# EAGLE library part SD_CARD_HOLDER (library capstone)
this is the sd card slot holder part number MEM2061
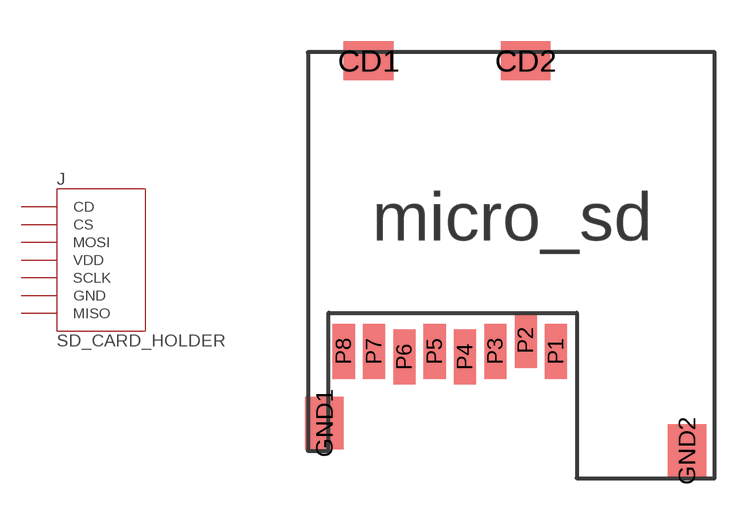
[diagram p4: symbol with the pads of SD_CARD_HOLDER; footprint SD_CARD_HOLDER]

Designator prefix J

## SD_CARD_HOLDER  [SD_CARD_HOLDER]
CD1  CD
CD2  CD
GND1  GND
GND2  GND
P2  CS
P3  MOSI
P4  VDD
P5  SCLK
P6  GND
P7  MISO

## Footprint SD_CARD_HOLDER (pad centres in mm)
smd 1.8 x 1.4: CD1 -11.55,14.15; CD2 -5.85,14.15
smd 1.4 x 1.9: GND1 -13.15,1; GND2 0,0
smd 0.8 x 2: P1 -4.75,3.6; P2 -5.85,4; P3 -6.95,3.6; P4 -8.05,3.4; P5 -9.15,3.6; P6 -10.25,3.4; P7 -11.35,3.6; P8 -12.45,3.6